# Altium footprint library TO-220C_TO254_440P1040X460X2000-3.PcbLib: 1 footprints
Each footprint in its own frame and in the unit in brackets; x right, y up, seen from the top. Pads: shape width x height; smd on the part's side, far side on the other; paste and mask are expansions set on the pad; w line width, h text height; cw(c..) or ccw(c..) is an arc to the next point about the centre after c.
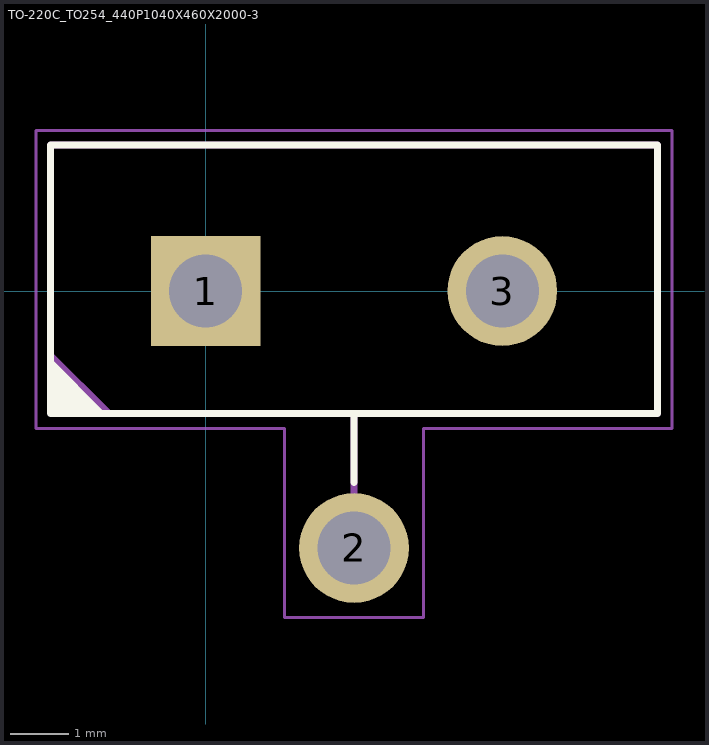
[diagram p0: the footprint, top view; thin cyan lines are the x and y axes]

## TO-220C_TO254_440P1040X460X2000-3 [mm] "Flange Mount (TO) Vertical, 2.54 mm pitch; 3 pin, 10.40 mm W X 4.60 mm H X 20.00 mm mounted height"
height 20
pads (3):
  rect 1.88x1.88 / inner round 1.88 / far side rect 1.88x1.88 hole 1.25 paste-2539.97: 1(0,0)
  round 1.88 hole 1.25 paste-2539.97: 2(2.54,-4.4) 3(5.08,0)
Top Overlay:
  region: -2.667,-1.143 -1.71,-2.1 -2.66,-2.1
  lines w0.12: 2.54,-3.28 2.54,-2.1 ; -2.66,-2.1 7.74,-2.1 7.74,2.5 -2.66,2.5 -2.66,-2.1
Mechanical 11:
  lines w0.12: 2.54,-3.46 2.54,-2.1 ; -2.66,-1.1 -1.66,-2.1 7.74,-2.1 7.74,2.5 -2.66,2.5 -2.66,-1.1
Mechanical 12:
  lines w0.025: -2.66,-2.1 7.74,-2.1 7.74,2.5 -2.66,2.5 -2.66,-2.1 ; -0.44,-0.35 -0.44,0.35 0.44,0.35 0.44,-0.35 -0.44,-0.35 ; 2.1,-4.75 2.1,-4.05 2.98,-4.05 2.98,-4.75 2.1,-4.75 ; 4.64,-0.35 4.64,0.35 5.52,0.35 5.52,-0.35 4.64,-0.35
Mechanical 15:
  circle w0.05: c0,0 r0.25
  lines w0.05: -0.35,0 0.35,0 ; 0,-0.35 0,0.35 ; -2.91,-2.35 1.35,-2.35 1.35,-5.59 3.73,-5.59 3.73,-2.35 7.99,-2.35 7.99,2.75 -2.91,2.75 -2.91,-2.35
Mechanical 16:
  text ".Designator" at 0,0 h1.2
3D body "TO-220B_TO254_440P1040X460X2000-3.STEP": height 20, standoff -2, extent -2.66,-4.772 7.74,2.5